# EAGLE library part 201646-010 (library con-molex-spoton)
HEADER
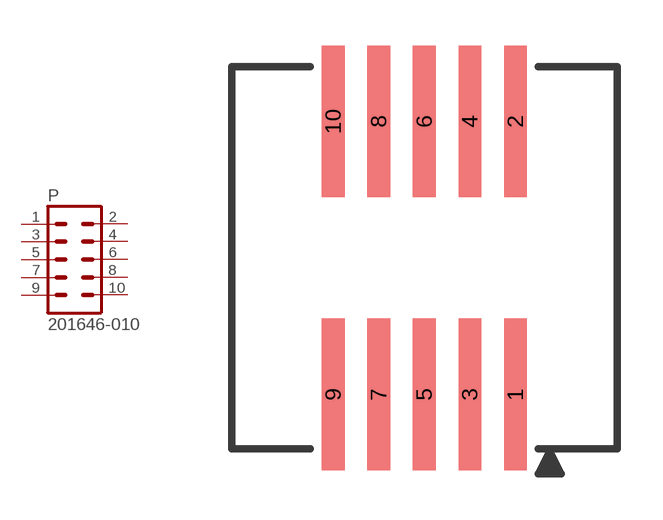
[diagram p1: symbol with the pads of 201646-010; footprint 201646-010]

Designator prefix P

## 201646-010  [201646-010]
1  1  pas
2  2  pas
3  3  pas
4  4  pas
5  5  pas
6  6  pas
7  7  pas
8  8  pas
9  9  pas
10  10  pas

## Footprint 201646-010 (pad centres in mm)
HEADER
smd 0.75 x 5: 1 3,-4.5; 2 3,4.5; 3 1.5,-4.5; 4 1.5,4.5; 5 0,-4.5; 6 0,4.5; 7 -1.5,-4.5; 8 -1.5,4.5; 9 -3,-4.5; 10 -3,4.5